# Altium schematic symbol library 2059570471.SchLib: 1 symbol
Pins are listed as number, name and electrical type; pins without a type are passive.

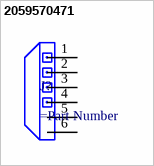
[diagram p0: symbol 2059570471]

## 2059570471
designator J?
=Description
pins: 1, 2, 3, 4, 5, 6